# Altium schematic symbol library LNA.SchLib: 3 symbols
Pins are listed as number, name and electrical type; pins without a type are passive.

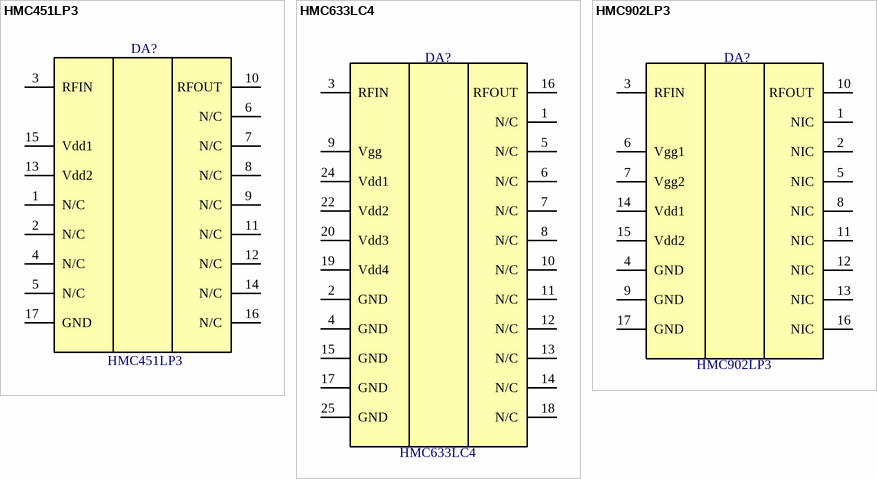
[diagram p0: symbols HMC451LP3 to HMC902LP3]

## HMC451LP3
designator DA?
GaAs PHEMT MMIC MEDIUM / POWER AMPLIFIER, 5 - 18 GHz; Manufacturer: Analog Devices; PartNumber: HMC451LP3
footprint QFN17P50_300X300X100L40X30T195N (Quad Flat No-Lead (QFN with Tab), 0.50 mm pitch; square, 4 pin X 4 pin, 3.00 mm L X 3.00 mm W X 1.00 mm H body)
pins: 1 N/C, 2 N/C, 3 RFIN, 4 N/C, 5 N/C, 6 N/C, 7 N/C, 8 N/C, 9 N/C, 10 RFOUT, 11 N/C, 12 N/C, 13 Vdd2, 14 N/C, 15 Vdd1, 16 N/C, 17 GND

## HMC633LC4
designator DA?
GaAs, pHEMT MMIC DRIVERAMPLIFIER, 5.5 - 17 GHz; Manufacturer: Analog Devices; ComponentLink1Description: Component page; ComponentLink1URL: https://www.analog.com/en/products/hmc633lc4.html; PartNumber: HMC633LC4
footprint PQFN25P50_390X390X100L32X30T250N (Pullback Quad Flat No-Lead (PQFN with Tab), 0.50 mm pitch; square, 6 pin X 6 pin, 3.90 mm L X 3.90 mm W X 1.00 mm H body)
pins: 1 N/C, 2 GND, 3 RFIN, 4 GND, 5 N/C, 6 N/C, 7 N/C, 8 N/C, 9 Vgg, 10 N/C, 11 N/C, 12 N/C, 13 N/C, 14 N/C, 15 GND, 16 RFOUT, 17 GND, 18 N/C, 19 Vdd4, 20 Vdd3, 22 Vdd2, 24 Vdd1, 25 GND

## HMC902LP3
designator DA?
GaAs, pHEMT, MMIC, Low Noise Amplifier, 5 GHz to 11 GHz; Manufacturer: Analog Devices; ComponentLink1Description: Component page; ComponentLink1URL: https://www.analog.com/en/products/hmc902lp3e.html; PartNumber: HMC902LP3
footprint QFN17P50_300X300X90L40X25T170N (Quad Flat No-Lead (QFN with Tab), 0.50 mm pitch; square, 4 pin X 4 pin, 3.00 mm L X 3.00 mm W X 0.90 mm H body)
pins: 1 NIC, 2 NIC, 3 RFIN, 4 GND, 5 NIC, 6 Vgg1, 7 Vgg2, 8 NIC, 9 GND, 10 RFOUT, 11 NIC, 12 NIC, 13 NIC, 14 Vdd1, 15 Vdd2, 16 NIC, 17 GND